# EAGLE library part SJ2-35954D-SMT-TR (library BW-Connectors)
4 conductors, 3.5mm, SMT Audio Jack w/ 2 Switch
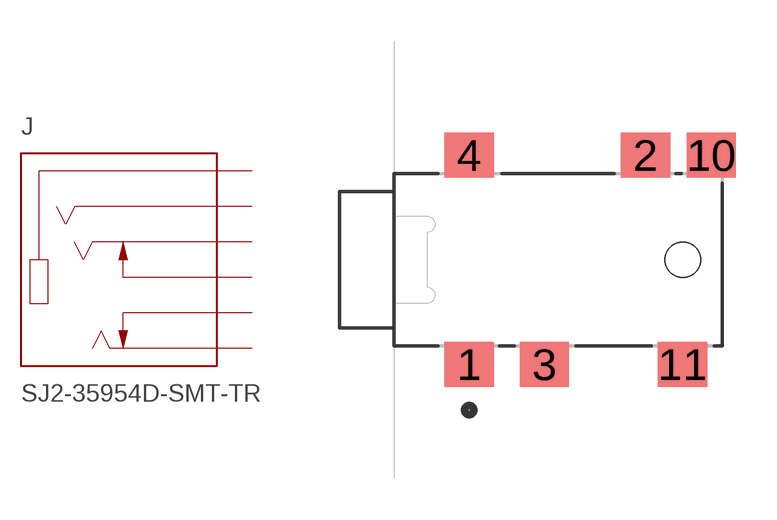
[diagram p2: symbol with the pads of CUI_SJ2-35954D-SMT-TR; footprint CUI_SJ2-35954D-SMT-TR]

Designator prefix J

## SJ2-35954D-SMT-TR (MANUFACTURER: CUI; PARTREV: 1.01; STANDARD: Manufacturer recommendation)  [CUI_SJ2-35954D-SMT-TR]
1  SLEEVE  pas
2  TIP  pas
3  RING1  pas
4  RING2  pas
10  TIP_SWITCH  pas
11  RING1_SWITCH  pas

## Footprint CUI_SJ2-35954D-SMT-TR (pad centres in mm)
smd 1.8 x 1.65: 1 -3.25,-3.825; 2 3.2,3.825; 3 -0.5,-3.825; 4 -3.25,3.825; 10 5.6,3.825; 11 4.55,-3.825
hole 1.3 at 4.55,0